# Altium schematic symbol library SN65LVDS2DBVR.SchLib: 1 symbol
Pins are listed as number, name and electrical type; pins without a type are passive.

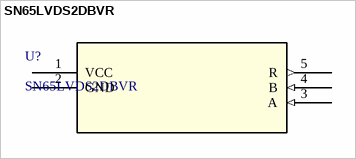
[diagram p0: symbol SN65LVDS2DBVR]

## SN65LVDS2DBVR
designator U?
400-Mbps LVDS single high-speed receiver 5-SOT-23 -40 to 85; Manufacturer_Name: Texas Instruments; Copyright: Copyright (C) 2026 Ultra Librarian. All rights reserved.; Manufacturer_Part_Number: SN65LVDS2DBVR; RefDes: RefDes; Type: Type
footprint DBV5
pins: 1 VCC (power), 2 GND (power), 3 A (in), 4 B (in), 5 R (out)